# Altium schematic symbol library SCH - POWER - LINEAR VREG - TI TPS75601_KC_5.SchLib: 1 symbol
Pins are listed as number, name and electrical type; pins without a type are passive.

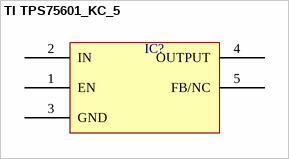
[diagram p0: symbol TI TPS75601_KC_5]

## TI TPS75601_KC_5
designator IC?  (value not drawn)
pins: 1 EN, 2 IN, 3 GND, 4 OUTPUT, 5 FB/NC